# EAGLE library part ATSAMD1*D14A-M (library maxorig)
ATSAMD11D14A-M - 32bit low-power Cortex M0+ microcontroller This part is for the 24 pin count piece in the SAMD10 and SAMD11 series of low-power microcontrollers. The SAMD11 series adds USB to SAMD10 series. Includes Atmel's configurable serial interfaces (SERCOMs) which can be configured to be a UART, I2C, LIN, or SPI. Technical specifications: VCC: 1.62-3.63V Core frequency up to 48MHz Program flash: 16kb RAM: 4kb SERCOMS: 3 GPIOs: 22 ADC channels: 10 ADC resolution: 12 bits DACs: 1
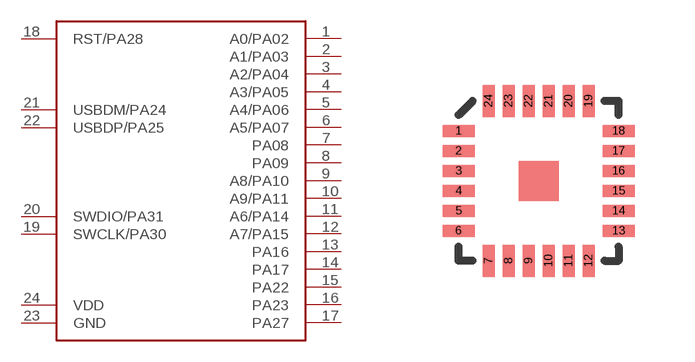
[diagram p18: symbol with the pads of QFN24_4X4; footprint QFN24_4X4]

Designator prefix -

## ATSAMD1D14A-M  [QFN24_4X4]
1  A0/PA02
2  A1/PA03
3  A2/PA04
4  A3/PA05
5  A4/PA06
6  A5/PA07
7  PA08
8  PA09
9  A8/PA10
10  A9/PA11
11  A6/PA14
12  A7/PA15
13  PA16
14  PA17
15  PA22
16  PA23
17  PA27
18  RST/PA28
19  SWCLK/PA30
20  SWDIO/PA31
21  USBDM/PA24
22  USBDP/PA25
23  GND
24  VDD

## Footprint QFN24_4X4 (pad centres in mm)
smd 0.8 x 0.3: 1 -2,1.25; 2 -2,0.75; 3 -2,0.25; 4 -2,-0.25; 5 -2,-0.75; 6 -2,-1.25; 13 2,-1.25; 14 2,-0.75; 15 2,-0.25; 16 2,0.25; 17 2,0.75; 18 2,1.25
smd 0.3 x 0.8: 7 -1.25,-2; 8 -0.75,-2; 9 -0.25,-2; 10 0.25,-2; 11 0.75,-2; 12 1.25,-2; 19 1.25,2; 20 0.75,2; 21 0.25,2; 22 -0.25,2; 23 -0.75,2; 24 -1.25,2